# EAGLE library part ISO7241 (library TI)
ISO7241: HIGH SPEED QUAD DIGITAL ISOLATORS Website: http://www.ti.com/product/iso7241c Datasheet: http://www.ti.com/lit/ds/symlink/iso7241c.pdf The ISO7241 has three channels one way, one channel the other way.
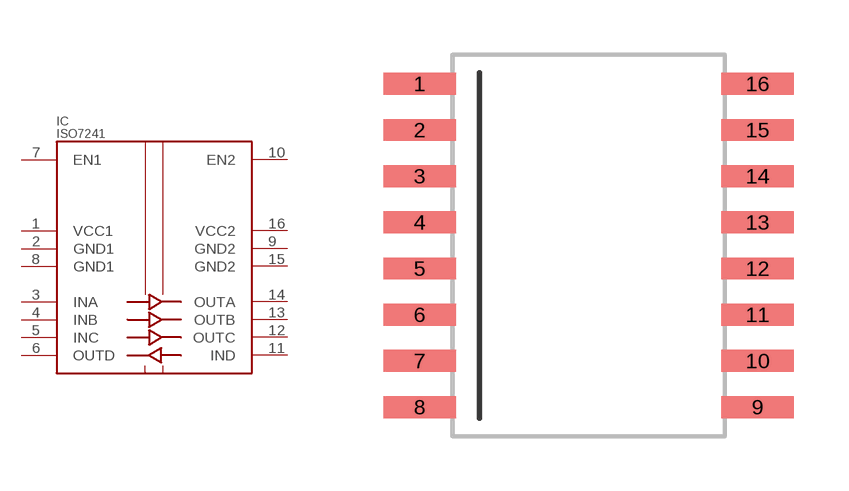
[diagram p9: symbol with the pads of D_(R-PDSO-G16); footprint D_(R-PDSO-G16)]

Designator prefix IC

## ISO7241  [D_(R-PDSO-G16)]
1  VCC1
2  GND1
3  INA  in
4  INB  in
5  INC  in
6  OUTD  out
7  EN1  out
8  GND1
9  GND2
10  EN2  in
11  IND  in
12  OUTC  out
13  OUTB  out
14  OUTA  out
15  GND2
16  VCC2

## Footprint D_(R-PDSO-G16) (pad centres in mm)
SOIC-16 - DW (R-PDSO-G16) from http://www.ti.com/lit/ds/symlink/iso7241c.pdf
smd 2 x 0.6: 1 -4.65,4.445; 2 -4.65,3.175; 3 -4.65,1.905; 4 -4.65,0.635; 5 -4.65,-0.635; 6 -4.65,-1.905; 7 -4.65,-3.175; 8 -4.65,-4.445; 9 4.65,-4.445; 10 4.65,-3.175; 11 4.65,-1.905; 12 4.65,-0.635; 13 4.65,0.635; 14 4.65,1.905; 15 4.65,3.175; 16 4.65,4.445